# Altium footprint library TPS6513_pcb.PcbLib: 8 footprints
Each footprint in its own frame and in the unit in brackets; x right, y up, seen from the top. Pads: shape width x height; smd on the part's side, far side on the other; paste and mask are expansions set on the pad; w line width, h text height; cw(c..) or ccw(c..) is an arc to the next point about the centre after c.
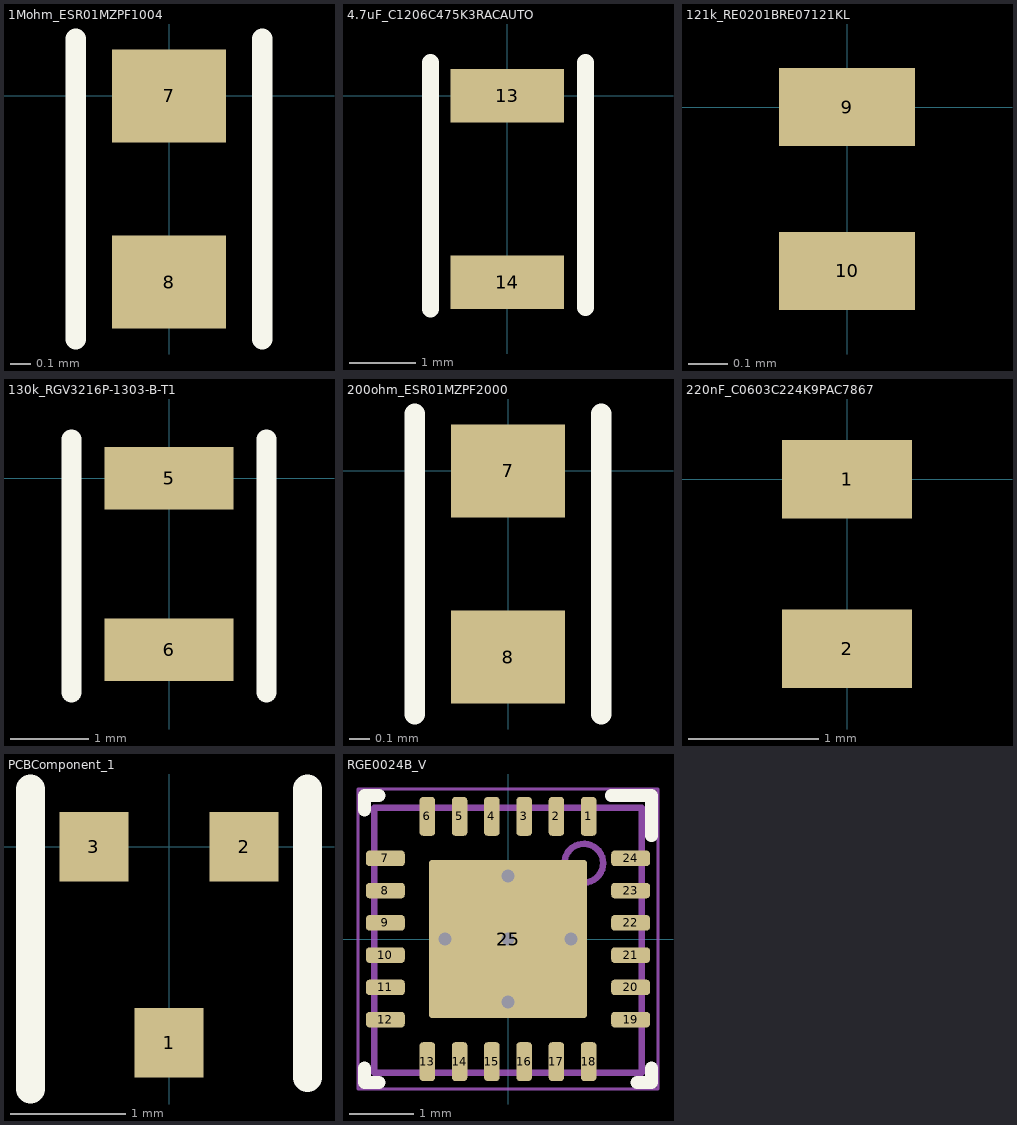
[diagram p0: the footprints below, top view; thin cyan lines are the x and y axes]

## 1Mohm_ESR01MZPF1004 [mm]
pads (2):
  rect 0.55x0.45 smd: 7(0,0) 8(0,-0.9)
Top Overlay:
  lines w0.1: -0.45,-1.175 -0.45,0.275 ; 0.45,-1.175 0.45,0.275

## 4.7uF_C1206C475K3RACAUTO [mm]
pads (2):
  rect 1.7x0.8 smd: 13(0,0) 14(0,-2.8)
Top Overlay:
  lines w0.254: -1.15,-3.2 -1.15,0.5 ; 1.175,-3.175 1.175,0.5

## 121k_RE0201BRE07121KL [mm]
pads (2):
  rect 0.35x0.2 smd: 9(0,0) 10(0,-0.42)

## 130k_RGV3216P-1303-B-T1 [mm]
pads (2):
  rect 1.65x0.8 smd: 5(0,0) 6(0,-2.2)
Top Overlay:
  lines w0.254: -1.25,-2.75 -1.25,0.5 ; 1.25,-2.75 1.25,0.5

## 200ohm_ESR01MZPF2000 [mm]
pads (2):
  rect 0.55x0.45 smd: 7(0,0) 8(0,-0.9)
Top Overlay:
  lines w0.1: -0.45,-1.175 -0.45,0.275 ; 0.45,-1.175 0.45,0.275

## 220nF_C0603C224K9PAC7867 [mm]
pads (2):
  rect 1x0.6 smd: 1(0,0) 2(0,-1.3)

## PCBComponent_1 [mm]
pads (3):
  rect 0.6x0.6 smd: 1(0,-1.7) 2(0.65,0) 3(-0.65,0)
Top Overlay:
  lines w0.254: -1.2,-2.1 -1.2,0.5 ; 1.2,-2 1.2,0.5

## RGE0024B_V [mm] "QFN, 24-Leads, Body 4x4mm, Pitch 0.5mm, Thermal Pad 2.45x2.45mm"
height 1
pads (25):
  rrect42% 0.24x0.6 smd: 1(1.25,1.9) 2(0.75,1.9) 3(0.25,1.9) 4(-0.25,1.9) 5(-0.75,1.9) 6(-1.25,1.9) 13(-1.25,-1.9) 14(-0.75,-1.9) 15(-0.25,-1.9) 16(0.25,-1.9) 17(0.75,-1.9) 18(1.25,-1.9)
  rrect42% 0.6x0.24 smd: 7(-1.9,1.25) 8(-1.9,0.75) 9(-1.9,0.25) 10(-1.9,-0.25) 11(-1.9,-0.75) 12(-1.9,-1.25) 19(1.9,-1.25) 20(1.9,-0.75) 21(1.9,-0.25) 22(1.9,0.25) 23(1.9,0.75) 24(1.9,1.25)
  rrect4% 2.45x2.45 smd paste-1.225: 25(0,0)
via -0.975,0 diameter 0.5 hole 0.2
via 0,-0.975 diameter 0.5 hole 0.2
via 0,0 diameter 0.5 hole 0.2
via 0,0.975 diameter 0.5 hole 0.2
via 0.975,0 diameter 0.5 hole 0.2
Top Overlay:
  lines w0.2: -2.225,-2 -2.225,-2.225 -2,-2.225 ; -2.225,2 -2.225,2.225 -2,2.225 ; 1.6,2.225 2.225,2.225 2.225,1.6 ; 2,-2.225 2.225,-2.225 2.225,-2
Top Paste:
  region: -1.184,-0.1 -1.184,-1.184 -0.1,-1.184 -0.1,-0.1
  region: -0.1,0.1 -0.1,1.184 -1.184,1.184 -1.184,0.1
  region: 1.184,0.1 1.184,1.184 0.1,1.184 0.1,0.1
  region: 0.1,-0.1 0.1,-1.184 1.184,-1.184 1.184,-0.1
Mechanical 1:
  text ".Designator" at -2.413,3.937 h1.02
Mechanical 13:
  circle w0.1: c1.175,1.175 r0.3
  lines w0.1: -2.075,-2.075 -2.075,2.032 2.075,2.032 2.075,-2.075 -2.075,-2.075
Mechanical 15:
  lines w0.05: -2.325,-2.325 2.325,-2.325 2.325,2.325 -2.325,2.325 -2.325,-2.325
  lines w0.1: -0.5,0 0.5,0 ; 0,-0.5 0,0.5
3D body: height 1.01, standoff 0.5, extent 0.876,0.876 1.474,1.474
3D body: height 1, standoff 0, extent -2.075,-2.075 2.075,2.075